# Altium schematic symbol library SP03003_02-SC70.SchLib: 1 symbol
Pins are listed as number, name and electrical type; pins without a type are passive.

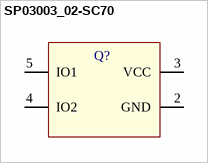
[diagram p0: symbol SP03003_02-SC70]

## SP03003_02-SC70
designator Q?  (value not drawn)
pins: 2 GND, 3 VCC, 4 IO2, 5 IO1